# EAGLE library part 68HC908JK (library micro-motorola)
MICROCONTROLLER/MEMORY DEVICE
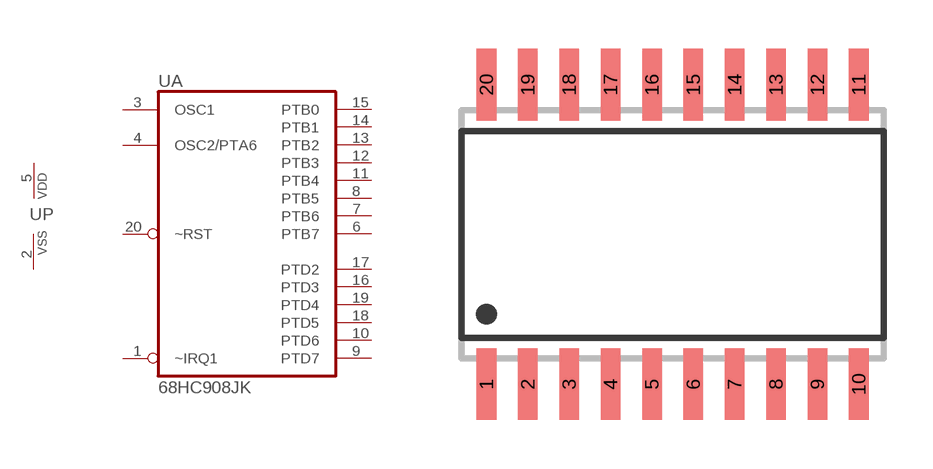
[diagram p79: symbol with the pads of SO20W; footprint SO20W]

Designator prefix U; gates A=68HC908JK P=VSSVDD

## 68HC908JK1  [SO20W]
1  A:~IRQ1  in
2  P:VSS  pwr
3  A:OSC1  in
4  A:OSC2/PTA6  in
5  P:VDD  pwr
6  A:PTB7
7  A:PTB6
8  A:PTB5
9  A:PTD7
10  A:PTD6
11  A:PTB4
12  A:PTB3
13  A:PTB2
14  A:PTB1
15  A:PTB0
16  A:PTD3
17  A:PTD2
18  A:PTD5
19  A:PTD4
20  A:~RST  in

## Footprint SO20W (pad centres in mm)
SMALL OUTLINE INTEGRATED CIRCUIT wide body 7.5 mm/JEDEC MS-013AC
smd 0.6 x 2.2: 1 -5.715,-4.6; 2 -4.445,-4.6; 3 -3.175,-4.6; 4 -1.905,-4.6; 5 -0.635,-4.6; 6 0.635,-4.6; 7 1.905,-4.6; 8 3.175,-4.6; 9 4.445,-4.6; 10 5.715,-4.6; 11 5.715,4.6; 12 4.445,4.6; 13 3.175,4.6; 14 1.905,4.6; 15 0.635,4.6; 16 -0.635,4.6; 17 -1.905,4.6; 18 -3.175,4.6; 19 -4.445,4.6; 20 -5.715,4.6